# Altium schematic symbol library MAX1555EZK+T.SchLib: 1 symbol
Pins are listed as number, name and electrical type; pins without a type are passive.

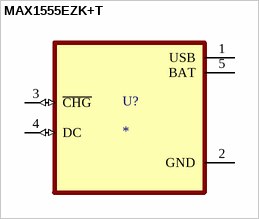
[diagram p0: symbol MAX1555EZK+T]

## MAX1555EZK+T
designator U?
MF: {'manufacturer': u'Analog Devices'}; MP: MAX1555EZK+T; Package: None; Price: None; Value: *; Availability: Unavailable
footprint SOT95P275X110-5N
pins: 1 USB (power), 2 GND (power), 3 ~{CHG} (io), 4 DC (io), 5 BAT (power)